# Altium footprint library SW_EG1218.PcbLib: 1 footprints
Each footprint in its own frame and in the unit in brackets; x right, y up, seen from the top. Pads: shape width x height; smd on the part's side, far side on the other; paste and mask are expansions set on the pad; w line width, h text height; cw(c..) or ccw(c..) is an arc to the next point about the centre after c.
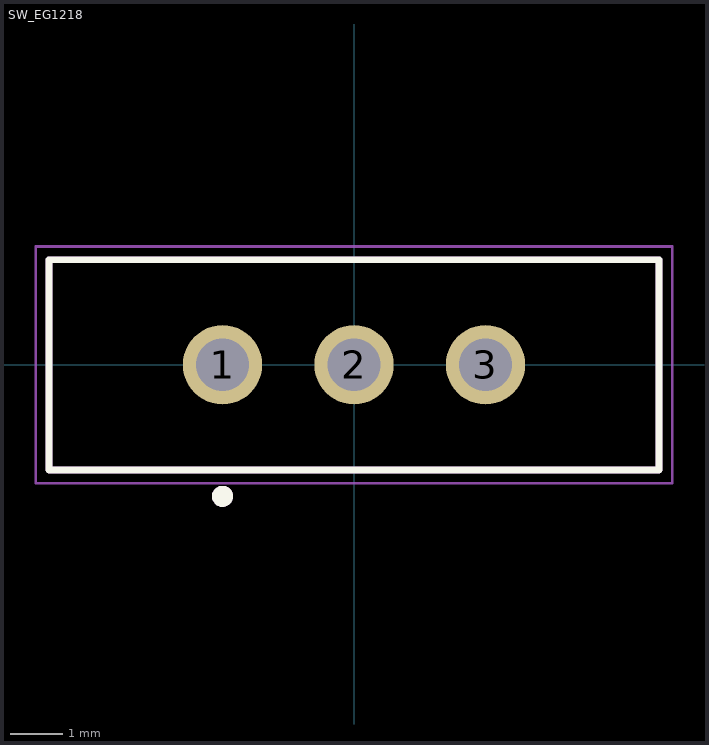
[diagram p0: the footprint, top view; thin cyan lines are the x and y axes]

## SW_EG1218 [mm]
pads (3):
  round 1.508 hole 1: 1(-2.5,0) 2(0,0) 3(2.5,0)
Top Overlay:
  circle w0.2: c-2.5,-2.5 r0.1
  lines w0.127: -5.8,-2 5.8,-2 5.8,2 -5.8,2 -5.8,-2
Mechanical 13:
  circle w0.2: c-2.5,-2.5 r0.1
  lines w0.127: -5.8,-2 5.8,-2 5.8,2 -5.8,2 -5.8,-2
Mechanical 15:
  lines w0.05: -6.05,-2.25 6.05,-2.25 6.05,2.25 -6.05,2.25 -6.05,-2.25
3D body "step_temp.STEP": height 2, standoff -2, extent -5.8,-7 5.8,5.1